# Altium integrated library Linear Technology Power Management Battery Management.IntLib: 626 symbols (part 3 of 56)
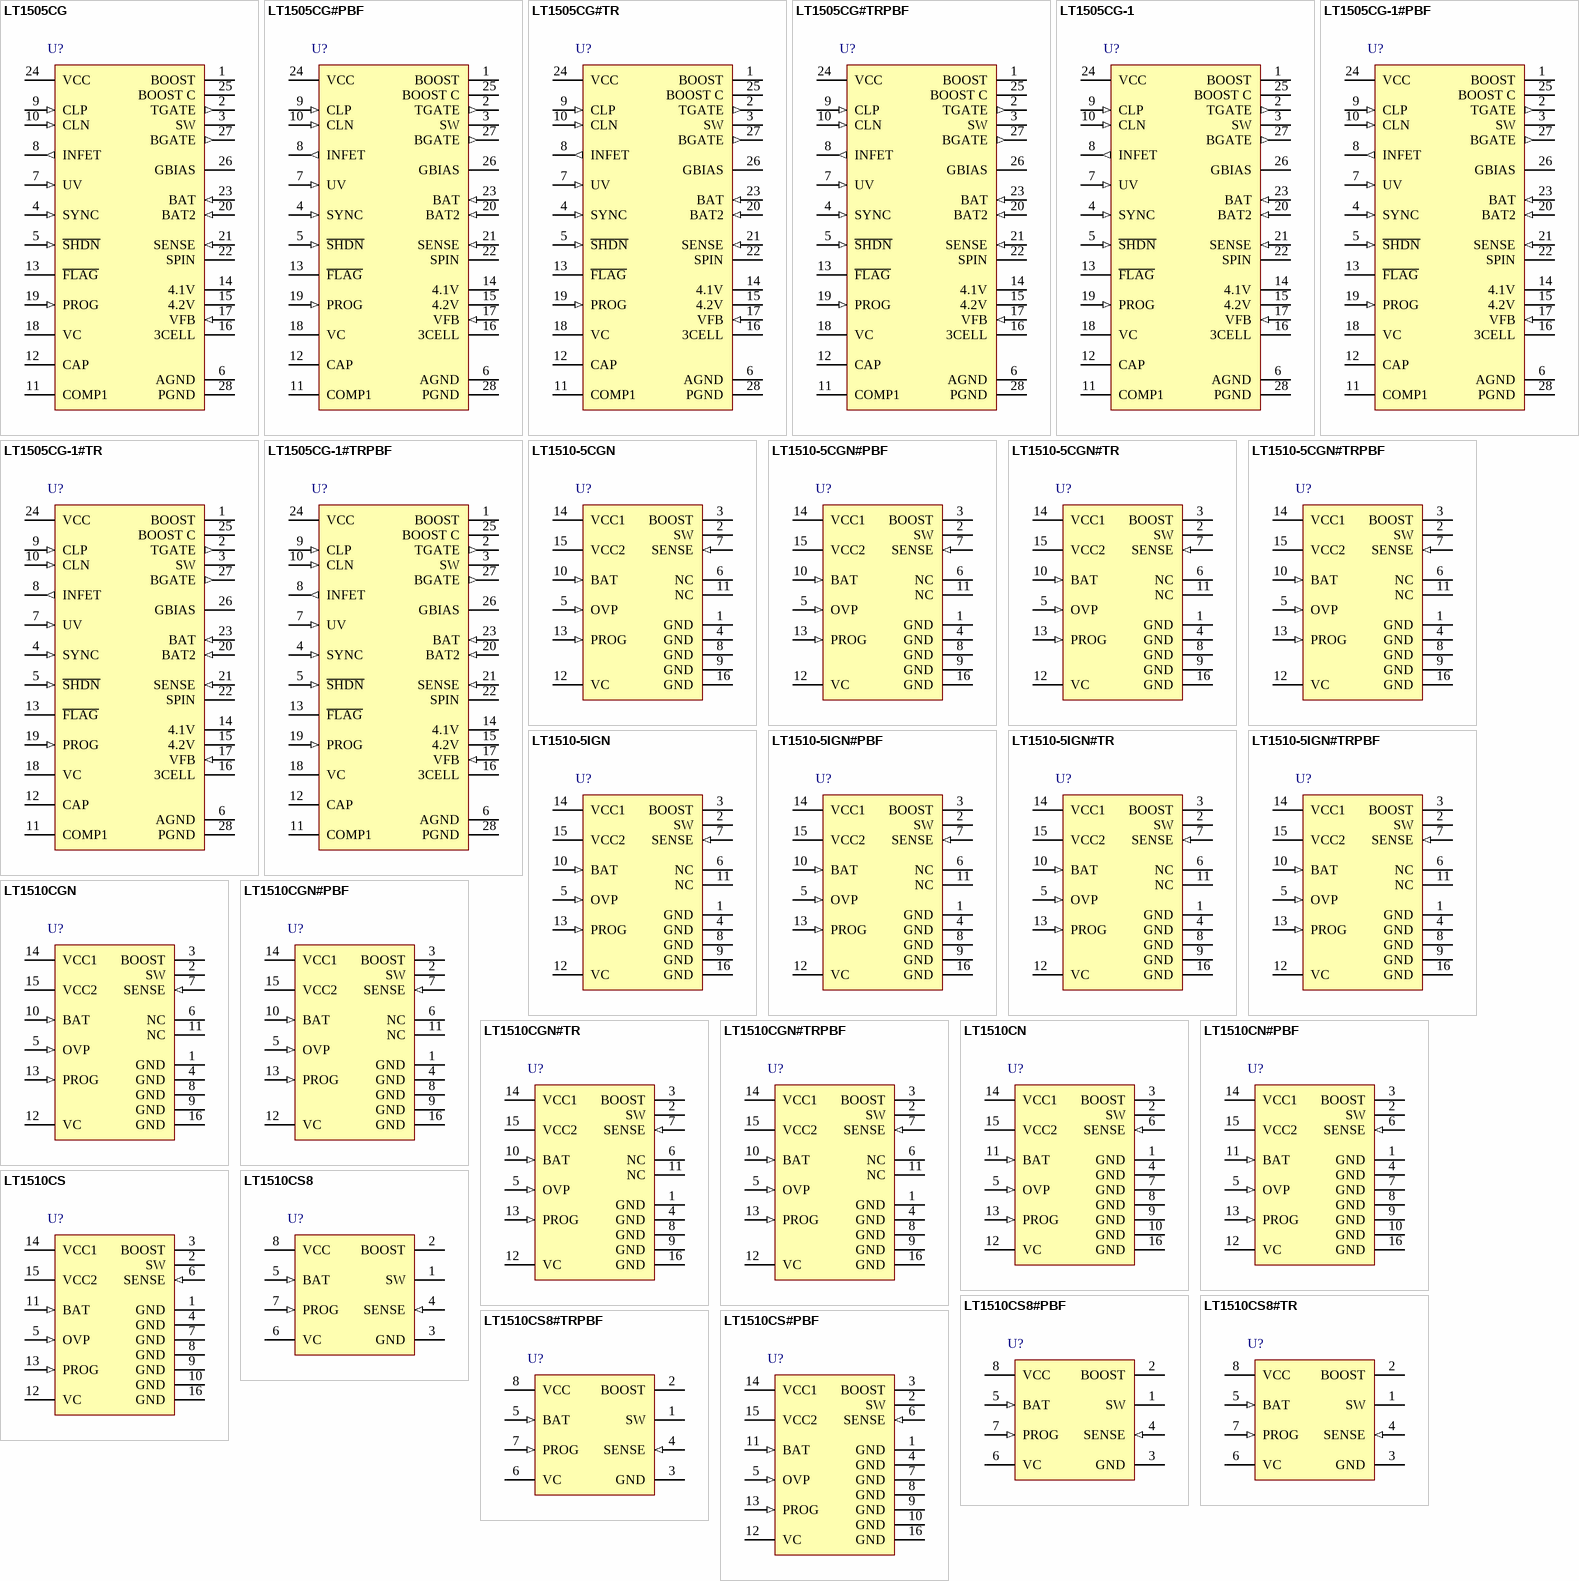
[diagram p24: symbols LT1505CG to LT1510CS#PBF]

## LT1510CGN#TR
designator U?
Constant-Voltage/ Constant-Current Battery Charger, 7 to 29 V Vin, 16-pin SOP (GN-16), 0 to 70 degC, Tape and Reel; Manufacturer: Linear Technology; PartNumber: LT1510CGN#TR; Battery Chemistry: Li-Ion, Li-Polymer, NiCd, NiMH, Lead Acid; Charge Termination: Use LTC1729; Float Voltage: Adj; Max Charge Current(A): 1.07; Number of Cells: 1 to 4 (Li), 1 to 12 (Ni); Type of Charger: Switching; Vin Max(V): 29; Vin Min(V): 7; DatasheetVersion: Rev. C; PackageVersion: Rev. B, 03/2012; PackageReference: GN-16; PackageDescription: 16-Pin Plastic SSOP, Body 4.9 x 3.9 mm, Pitch 0.635 mm; Supplier 1: Digi-Key; Supplier Part Number 1: LT1510CGN#TR-ND; Packing: Tape and Reel; RoHS: FALSE; Mounting Technology: Surface Mount; ComponentLink1Description: Manufacturer URL; ComponentLink1URL: http://www.linear.com/; ComponentLink2Description: Datasheet; ComponentLink2URL: http://cds.linear.com/docs/en/datasheet/1510fc.pdf; ComponentLink3Description: Package Specification; ComponentLink3URL: http://cds.linear.com/docs/en/packaging/05081641_B_GN16.pdf
footprint LT-GN-16_N (SOP, 16-Leads, Body 5x4mm, Pitch 0.635mm, IPC Medium Density)
footprint LT-GN-16_L (SOP, 16-Leads, Body 5x4mm, Pitch 0.635mm, IPC High Density)
footprint LT-GN-16_M (SOP, 16-Leads, Body 5x4mm, Pitch 0.635mm, IPC Low Density)
pins: 1 GND (power) "Ground Pin.", 2 SW (power) "Switch Output. The Schottky catch diode must be placed with very short lead length in close proximity to SW pin and GND.", 3 BOOST "This pin is used to bootstrap and drive the switch power NPN transistor to a low on-voltage for low power dissipation. In normal operation, VBOOST = VCC + VBAT when switch is on. Maximum allowable VBOOST is 55V.", 4 GND (power) "Ground Pin.", 5 OVP (in) "This is the input to the amplifier VA with a threshold of 2.465V. Typical input current is about 50nA into pin. For charging lithium-ion batteries, VA monitors the battery voltage and reduces charging current when battery (See Datasheet)", 6 NC, 7 SENSE (in) "Current Amplifier CA1 Input. Sensing can be at either terminal of the battery. Note that current sense resistor RS1 (0.08ohm) is between Sense and BAT pins.", 8 GND (power) "Ground Pin.", 9 GND (power) "Ground Pin.", 10 BAT (in) "Current Amplifier CA1 Input.", 11 NC, 12 VC "This is the control signal of the inner loop of the current mode PWM. Switching starts at 0.7V and higher VC corresponds to higher charging current in normal operation. A capacitor of at least 0.1uF to GND filters out noise (See Datasheet)", 13 PROG (in) "This pin is for programming the charging current and for system loop compensation. During normal operation, VPROG stays close to 2.465V. If it is shorted to GND the switching will stop. When a microprocessor-controlled DAC (See Datasheet)", 14 VCC1 (power) "Supply for the Chip. For good bypass, a low ESR capacitor of 10uF or higher is required, with the lead length kept to a minimum. VCC should be between 8V and 28V and at least 2V higher than VBAT for VBAT less than 10V, and 2.(See Datasheet)", 15 VCC2 (power) "Supply for the Chip. For good bypass, a low ESR capacitor of 10uF or higher is required, with the lead length kept to a minimum. VCC should be between 8V and 28V and at least 2V higher than VBAT for VBAT less than 10V, and 2.(See Datasheet)", 16 GND (power) "Ground Pin."

## LT1510CGN#TRPBF
designator U?
Constant-Voltage/ Constant-Current Battery Charger, 7 to 29 V Vin, 16-pin SOP (GN-16), 0 to 70 degC, Pb-Free, Tape and Reel; Manufacturer: Linear Technology; PartNumber: LT1510CGN#TRPBF; Battery Chemistry: Li-Ion, Li-Polymer, NiCd, NiMH, Lead Acid; Charge Termination: Use LTC1729; Float Voltage: Adj; Max Charge Current(A): 1.07; Number of Cells: 1 to 4 (Li), 1 to 12 (Ni); Type of Charger: Switching; Vin Max(V): 29; Vin Min(V): 7; DatasheetVersion: Rev. C; PackageVersion: Rev. B, 03/2012; PackageReference: GN-16; PackageDescription: 16-Pin Plastic SSOP, Body 4.9 x 3.9 mm, Pitch 0.635 mm; Supplier 1: Digi-Key; Supplier Part Number 1: LT1510CGN#TRPBF-ND; Packing: Tape and Reel; RoHS: TRUE; Mounting Technology: Surface Mount; ComponentLink1Description: Manufacturer URL; ComponentLink1URL: http://www.linear.com/; ComponentLink2Description: Datasheet; ComponentLink2URL: http://cds.linear.com/docs/en/datasheet/1510fc.pdf; ComponentLink3Description: Package Specification; ComponentLink3URL: http://cds.linear.com/docs/en/packaging/05081641_B_GN16.pdf
footprint LT-GN-16_N (SOP, 16-Leads, Body 5x4mm, Pitch 0.635mm, IPC Medium Density)
footprint LT-GN-16_L (SOP, 16-Leads, Body 5x4mm, Pitch 0.635mm, IPC High Density)
footprint LT-GN-16_M (SOP, 16-Leads, Body 5x4mm, Pitch 0.635mm, IPC Low Density)
pins: 1 GND (power) "Ground Pin.", 2 SW (power) "Switch Output. The Schottky catch diode must be placed with very short lead length in close proximity to SW pin and GND.", 3 BOOST "This pin is used to bootstrap and drive the switch power NPN transistor to a low on-voltage for low power dissipation. In normal operation, VBOOST = VCC + VBAT when switch is on. Maximum allowable VBOOST is 55V.", 4 GND (power) "Ground Pin.", 5 OVP (in) "This is the input to the amplifier VA with a threshold of 2.465V. Typical input current is about 50nA into pin. For charging lithium-ion batteries, VA monitors the battery voltage and reduces charging current when battery (See Datasheet)", 6 NC, 7 SENSE (in) "Current Amplifier CA1 Input. Sensing can be at either terminal of the battery. Note that current sense resistor RS1 (0.08ohm) is between Sense and BAT pins.", 8 GND (power) "Ground Pin.", 9 GND (power) "Ground Pin.", 10 BAT (in) "Current Amplifier CA1 Input.", 11 NC, 12 VC "This is the control signal of the inner loop of the current mode PWM. Switching starts at 0.7V and higher VC corresponds to higher charging current in normal operation. A capacitor of at least 0.1uF to GND filters out noise (See Datasheet)", 13 PROG (in) "This pin is for programming the charging current and for system loop compensation. During normal operation, VPROG stays close to 2.465V. If it is shorted to GND the switching will stop. When a microprocessor-controlled DAC (See Datasheet)", 14 VCC1 (power) "Supply for the Chip. For good bypass, a low ESR capacitor of 10uF or higher is required, with the lead length kept to a minimum. VCC should be between 8V and 28V and at least 2V higher than VBAT for VBAT less than 10V, and 2.(See Datasheet)", 15 VCC2 (power) "Supply for the Chip. For good bypass, a low ESR capacitor of 10uF or higher is required, with the lead length kept to a minimum. VCC should be between 8V and 28V and at least 2V higher than VBAT for VBAT less than 10V, and 2.(See Datasheet)", 16 GND (power) "Ground Pin."

## LT1510CN
designator U?
Constant-Voltage/ Constant-Current Battery Charger, 7 to 29 V Vin, 16-pin DIP (N-16), 0 to 70 degC; Manufacturer: Linear Technology; PartNumber: LT1510CN; Battery Chemistry: Li-Ion, Li-Polymer, NiCd, NiMH, Lead Acid; Charge Termination: Use LTC1729; Float Voltage: Adj; Max Charge Current(A): 1.07; Number of Cells: 1 to 4 (Li), 1 to 12 (Ni); Type of Charger: Switching; Vin Max(V): 29; Vin Min(V): 7; DatasheetVersion: Rev. C; PackageVersion: Rev. I, 07/2011; PackageReference: N-16; PackageDescription: 16-Pin PDIP, Body 19.56 x 6.48 mm, Pitch 2.54 mm; Supplier 1: Digi-Key; Supplier Part Number 1: LT1510CN-ND; RoHS: FALSE; Mounting Technology: Through Hole; ComponentLink1Description: Manufacturer URL; ComponentLink1URL: http://www.linear.com/; ComponentLink2Description: Datasheet; ComponentLink2URL: http://cds.linear.com/docs/en/datasheet/1510fc.pdf; ComponentLink3Description: Package Specification; ComponentLink3URL: http://cds.linear.com/docs/en/packaging/05081510_I_N16.pdf
footprint LT-N-16 (DIP, 16-Leads, Body 19.56x6.48mm, Pitch 2.54mm)
pins: 1 GND (power) "Ground Pin.", 2 SW (power) "Switch Output. The Schottky catch diode must be placed with very short lead length in close proximity to SW pin and GND.", 3 BOOST "This pin is used to bootstrap and drive the switch power NPN transistor to a low on-voltage for low power dissipation. In normal operation, VBOOST = VCC + VBAT when switch is on. Maximum allowable VBOOST is 55V.", 4 GND (power) "Ground Pin.", 5 OVP (in) "This is the input to the amplifier VA with a threshold of 2.465V. Typical input current is about 50nA into pin. For charging lithium-ion batteries, VA monitors the battery voltage and reduces charging current when battery (See Datasheet)", 6 SENSE (in) "Current Amplifier CA1 Input. Sensing can be at either terminal of the battery. Note that current sense resistor RS1 (0.08ohm) is between Sense and BAT pins.", 7 GND (power) "Ground Pin.", 8 GND (power) "Ground Pin.", 9 GND (power) "Ground Pin.", 10 GND (power) "Ground Pin.", 11 BAT (in) "Current Amplifier CA1 Input.", 12 VC "This is the control signal of the inner loop of the current mode PWM. Switching starts at 0.7V and higher VC corresponds to higher charging current in normal operation. A capacitor of at least 0.1uF to GND filters out noise (See Datasheet)", 13 PROG (in) "This pin is for programming the charging current and for system loop compensation. During normal operation, VPROG stays close to 2.465V. If it is shorted to GND the switching will stop. When a microprocessor-controlled DAC (See Datasheet)", 14 VCC1 (power) "Supply for the Chip. For good bypass, a low ESR capacitor of 10uF or higher is required, with the lead length kept to a minimum. VCC should be between 8V and 28V and at least 2V higher than VBAT for VBAT less than 10V, and 2.(See Datasheet)", 15 VCC2 (power) "Supply for the Chip. For good bypass, a low ESR capacitor of 10uF or higher is required, with the lead length kept to a minimum. VCC should be between 8V and 28V and at least 2V higher than VBAT for VBAT less than 10V, and 2.(See Datasheet)", 16 GND (power) "Ground Pin."

## LT1510CN#PBF
designator U?
Constant-Voltage/ Constant-Current Battery Charger, 7 to 29 V Vin, 16-pin DIP (N-16), 0 to 70 degC, Pb-Free; Manufacturer: Linear Technology; PartNumber: LT1510CN#PBF; Battery Chemistry: Li-Ion, Li-Polymer, NiCd, NiMH, Lead Acid; Charge Termination: Use LTC1729; Float Voltage: Adj; Max Charge Current(A): 1.07; Number of Cells: 1 to 4 (Li), 1 to 12 (Ni); Type of Charger: Switching; Vin Max(V): 29; Vin Min(V): 7; DatasheetVersion: Rev. C; PackageVersion: Rev. I, 07/2011; PackageReference: N-16; PackageDescription: 16-Pin PDIP, Body 19.56 x 6.48 mm, Pitch 2.54 mm; Supplier 1: Digi-Key; Supplier Part Number 1: LT1510CN#PBF-ND; RoHS: TRUE; Mounting Technology: Through Hole; ComponentLink1Description: Manufacturer URL; ComponentLink1URL: http://www.linear.com/; ComponentLink2Description: Datasheet; ComponentLink2URL: http://cds.linear.com/docs/en/datasheet/1510fc.pdf; ComponentLink3Description: Package Specification; ComponentLink3URL: http://cds.linear.com/docs/en/packaging/05081510_I_N16.pdf
footprint LT-N-16 (DIP, 16-Leads, Body 19.56x6.48mm, Pitch 2.54mm)
pins: 1 GND (power) "Ground Pin.", 2 SW (power) "Switch Output. The Schottky catch diode must be placed with very short lead length in close proximity to SW pin and GND.", 3 BOOST "This pin is used to bootstrap and drive the switch power NPN transistor to a low on-voltage for low power dissipation. In normal operation, VBOOST = VCC + VBAT when switch is on. Maximum allowable VBOOST is 55V.", 4 GND (power) "Ground Pin.", 5 OVP (in) "This is the input to the amplifier VA with a threshold of 2.465V. Typical input current is about 50nA into pin. For charging lithium-ion batteries, VA monitors the battery voltage and reduces charging current when battery (See Datasheet)", 6 SENSE (in) "Current Amplifier CA1 Input. Sensing can be at either terminal of the battery. Note that current sense resistor RS1 (0.08ohm) is between Sense and BAT pins.", 7 GND (power) "Ground Pin.", 8 GND (power) "Ground Pin.", 9 GND (power) "Ground Pin.", 10 GND (power) "Ground Pin.", 11 BAT (in) "Current Amplifier CA1 Input.", 12 VC "This is the control signal of the inner loop of the current mode PWM. Switching starts at 0.7V and higher VC corresponds to higher charging current in normal operation. A capacitor of at least 0.1uF to GND filters out noise (See Datasheet)", 13 PROG (in) "This pin is for programming the charging current and for system loop compensation. During normal operation, VPROG stays close to 2.465V. If it is shorted to GND the switching will stop. When a microprocessor-controlled DAC (See Datasheet)", 14 VCC1 (power) "Supply for the Chip. For good bypass, a low ESR capacitor of 10uF or higher is required, with the lead length kept to a minimum. VCC should be between 8V and 28V and at least 2V higher than VBAT for VBAT less than 10V, and 2.(See Datasheet)", 15 VCC2 (power) "Supply for the Chip. For good bypass, a low ESR capacitor of 10uF or higher is required, with the lead length kept to a minimum. VCC should be between 8V and 28V and at least 2V higher than VBAT for VBAT less than 10V, and 2.(See Datasheet)", 16 GND (power) "Ground Pin."

## LT1510CS
designator U?
Constant-Voltage/ Constant-Current Battery Charger, 7 to 29 V Vin, 16-pin SOP (S-16), 0 to 70 degC; Manufacturer: Linear Technology; PartNumber: LT1510CS; Battery Chemistry: Li-Ion, Li-Polymer, NiCd, NiMH, Lead Acid; Charge Termination: Use LTC1729; Float Voltage: Adj; Max Charge Current(A): 1.07; Number of Cells: 1 to 4 (Li), 1 to 12 (Ni); Type of Charger: Switching; Vin Max(V): 29; Vin Min(V): 7; DatasheetVersion: Rev. C; PackageVersion: Rev. G, 05/2012; PackageReference: S-16; PackageDescription: 16-Pin Plastic Small Outline, Body 9.9 x 3.9 mm, Pitch 1.27 mm; Supplier 1: Digi-Key; Supplier Part Number 1: LT1510CS-ND; RoHS: FALSE; Mounting Technology: Surface Mount; ComponentLink1Description: Manufacturer URL; ComponentLink1URL: http://www.linear.com/; ComponentLink2Description: Datasheet; ComponentLink2URL: http://cds.linear.com/docs/en/datasheet/1510fc.pdf; ComponentLink3Description: Package Specification; ComponentLink3URL: http://cds.linear.com/docs/en/packaging/S16%2005-08-1610%20Rev%20G.pdf
footprint LT-S-16_N (SOP, 16-Leads, Body 10x4mm, Pitch 1.27mm, IPC Medium Density)
footprint LT-S-16_L (SOP, 16-Leads, Body 10x4mm, Pitch 1.27mm, IPC High Density)
footprint LT-S-16_M (SOP, 16-Leads, Body 10x4mm, Pitch 1.27mm, IPC Low Density)
pins: 1 GND (power) "Ground Pin.", 2 SW (power) "Switch Output. The Schottky catch diode must be placed with very short lead length in close proximity to SW pin and GND.", 3 BOOST "This pin is used to bootstrap and drive the switch power NPN transistor to a low on-voltage for low power dissipation. In normal operation, VBOOST = VCC + VBAT when switch is on. Maximum allowable VBOOST is 55V.", 4 GND (power) "Ground Pin.", 5 OVP (in) "This is the input to the amplifier VA with a threshold of 2.465V. Typical input current is about 50nA into pin. For charging lithium-ion batteries, VA monitors the battery voltage and reduces charging current when battery (See Datasheet)", 6 SENSE (in) "Current Amplifier CA1 Input. Sensing can be at either terminal of the battery. Note that current sense resistor RS1 (0.08ohm) is between Sense and BAT pins.", 7 GND (power) "Ground Pin.", 8 GND (power) "Ground Pin.", 9 GND (power) "Ground Pin.", 10 GND (power) "Ground Pin.", 11 BAT (in) "Current Amplifier CA1 Input.", 12 VC "This is the control signal of the inner loop of the current mode PWM. Switching starts at 0.7V and higher VC corresponds to higher charging current in normal operation. A capacitor of at least 0.1uF to GND filters out noise (See Datasheet)", 13 PROG (in) "This pin is for programming the charging current and for system loop compensation. During normal operation, VPROG stays close to 2.465V. If it is shorted to GND the switching will stop. When a microprocessor-controlled DAC (See Datasheet)", 14 VCC1 (power) "Supply for the Chip. For good bypass, a low ESR capacitor of 10uF or higher is required, with the lead length kept to a minimum. VCC should be between 8V and 28V and at least 2V higher than VBAT for VBAT less than 10V, and 2.(See Datasheet)", 15 VCC2 (power) "Supply for the Chip. For good bypass, a low ESR capacitor of 10uF or higher is required, with the lead length kept to a minimum. VCC should be between 8V and 28V and at least 2V higher than VBAT for VBAT less than 10V, and 2.(See Datasheet)", 16 GND (power) "Ground Pin."

## LT1510CS8
designator U?
Constant-Voltage/ Constant-Current Battery Charger, 7 to 29 V Vin, 8-pin SOIC (S8-8), 0 to 70 degC; Manufacturer: Linear Technology; PartNumber: LT1510CS8; Battery Chemistry: Li-Ion, Li-Polymer, NiCd, NiMH, Lead Acid; Charge Termination: Use LTC1729; Float Voltage: Adj; Max Charge Current(A): 1.07; Number of Cells: 1 to 4 (Li), 1 to 12 (Ni); Type of Charger: Switching; Vin Max(V): 29; Vin Min(V): 7; DatasheetVersion: Rev. C; PackageVersion: Rev. G, 03/2012; PackageReference: S8-8; PackageDescription: 8-Pin Plastic Small Outline (Narrow .150 Inch), Body 4.9 x 3.9 mm, Pitch 1.27 mm; Supplier 1: Digi-Key; Supplier Part Number 1: LT1510CS8-ND; Supplier 2: Newark; Supplier Part Number 2: 57M4681; RoHS: FALSE; Mounting Technology: Surface Mount; ComponentLink1Description: Manufacturer URL; ComponentLink1URL: http://www.linear.com/; ComponentLink2Description: Datasheet; ComponentLink2URL: http://cds.linear.com/docs/en/datasheet/1510fc.pdf; ComponentLink3Description: Package Specification; ComponentLink3URL: http://cds.linear.com/docs/en/packaging/05081610_G_SO8.pdf
footprint LT-S8-8_N (SOIC, 8-Leads, Body 5x4mm, Pitch 1.27mm, IPC Medium Density)
footprint LT-S8-8_L (SOIC, 8-Leads, Body 5x4mm, Pitch 1.27mm, IPC High Density)
footprint LT-S8-8_M (SOIC, 8-Leads, Body 5x4mm, Pitch 1.27mm, IPC Low Density)
pins: 1 SW (power) "Switch Output. The Schottky catch diode must be placed with very short lead length in close proximity to SW pin and GND.", 2 BOOST "This pin is used to bootstrap and drive the switch power NPN transistor to a low on-voltage for low power dissipation. In normal operation, VBOOST = VCC + VBAT when switch is on. Maximum allowable VBOOST is 55V.", 3 GND (power) "Ground Pin.", 4 SENSE (in) "Current Amplifier CA1 Input. Sensing can be at either terminal of the battery. Note that current sense resistor RS1 (0.08ohm) is between Sense and BAT pins.", 5 BAT (in) "Current Amplifier CA1 Input.", 6 VC "This is the control signal of the inner loop of the current mode PWM. Switching starts at 0.7V and higher VC corresponds to higher charging current in normal operation. A capacitor of at least 0.1uF to GND filters out noise (See Datasheet)", 7 PROG (in) "This pin is for programming the charging current and for system loop compensation. During normal operation, VPROG stays close to 2.465V. If it is shorted to GND the switching will stop. When a microprocessor-controlled DAC (See Datasheet)", 8 VCC (power) "Supply for the Chip. For good bypass, a low ESR capacitor of 10uF or higher is required, with the lead length kept to a minimum. VCC should be between 8V and 28V and at least 2V higher than VBAT for VBAT less than 10V, and 2.(See Datasheet)"

## LT1510CS8#PBF
designator U?
Constant-Voltage/ Constant-Current Battery Charger, 7 to 29 V Vin, 8-pin SOIC (S8-8), 0 to 70 degC, Pb-Free; Manufacturer: Linear Technology; PartNumber: LT1510CS8#PBF; Battery Chemistry: Li-Ion, Li-Polymer, NiCd, NiMH, Lead Acid; Charge Termination: Use LTC1729; Float Voltage: Adj; Max Charge Current(A): 1.07; Number of Cells: 1 to 4 (Li), 1 to 12 (Ni); Type of Charger: Switching; Vin Max(V): 29; Vin Min(V): 7; DatasheetVersion: Rev. C; PackageVersion: Rev. G, 03/2012; PackageReference: S8-8; PackageDescription: 8-Pin Plastic Small Outline (Narrow .150 Inch), Body 4.9 x 3.9 mm, Pitch 1.27 mm; Supplier 1: Digi-Key; Supplier Part Number 1: LT1510CS8#PBF-ND; Supplier 2: Farnell; Supplier Part Number 2: 1273761; Supplier 3: Newark; Supplier Part Number 3: 57M4682; RoHS: TRUE; Mounting Technology: Surface Mount; ComponentLink1Description: Manufacturer URL; ComponentLink1URL: http://www.linear.com/; ComponentLink2Description: Datasheet; ComponentLink2URL: http://cds.linear.com/docs/en/datasheet/1510fc.pdf; ComponentLink3Description: Package Specification; ComponentLink3URL: http://cds.linear.com/docs/en/packaging/05081610_G_SO8.pdf
footprint LT-S8-8_N (SOIC, 8-Leads, Body 5x4mm, Pitch 1.27mm, IPC Medium Density)
footprint LT-S8-8_L (SOIC, 8-Leads, Body 5x4mm, Pitch 1.27mm, IPC High Density)
footprint LT-S8-8_M (SOIC, 8-Leads, Body 5x4mm, Pitch 1.27mm, IPC Low Density)
pins: 1 SW (power) "Switch Output. The Schottky catch diode must be placed with very short lead length in close proximity to SW pin and GND.", 2 BOOST "This pin is used to bootstrap and drive the switch power NPN transistor to a low on-voltage for low power dissipation. In normal operation, VBOOST = VCC + VBAT when switch is on. Maximum allowable VBOOST is 55V.", 3 GND (power) "Ground Pin.", 4 SENSE (in) "Current Amplifier CA1 Input. Sensing can be at either terminal of the battery. Note that current sense resistor RS1 (0.08ohm) is between Sense and BAT pins.", 5 BAT (in) "Current Amplifier CA1 Input.", 6 VC "This is the control signal of the inner loop of the current mode PWM. Switching starts at 0.7V and higher VC corresponds to higher charging current in normal operation. A capacitor of at least 0.1uF to GND filters out noise (See Datasheet)", 7 PROG (in) "This pin is for programming the charging current and for system loop compensation. During normal operation, VPROG stays close to 2.465V. If it is shorted to GND the switching will stop. When a microprocessor-controlled DAC (See Datasheet)", 8 VCC (power) "Supply for the Chip. For good bypass, a low ESR capacitor of 10uF or higher is required, with the lead length kept to a minimum. VCC should be between 8V and 28V and at least 2V higher than VBAT for VBAT less than 10V, and 2.(See Datasheet)"

## LT1510CS8#TR
designator U?
Constant-Voltage/ Constant-Current Battery Charger, 7 to 29 V Vin, 8-pin SOIC (S8-8), 0 to 70 degC, Tape and Reel; Manufacturer: Linear Technology; PartNumber: LT1510CS8#TR; Battery Chemistry: Li-Ion, Li-Polymer, NiCd, NiMH, Lead Acid; Charge Termination: Use LTC1729; Float Voltage: Adj; Max Charge Current(A): 1.07; Number of Cells: 1 to 4 (Li), 1 to 12 (Ni); Type of Charger: Switching; Vin Max(V): 29; Vin Min(V): 7; DatasheetVersion: Rev. C; PackageVersion: Rev. G, 03/2012; PackageReference: S8-8; PackageDescription: 8-Pin Plastic Small Outline (Narrow .150 Inch), Body 4.9 x 3.9 mm, Pitch 1.27 mm; Supplier 1: Digi-Key; Supplier Part Number 1: LT1510CS8#TR-ND; Packing: Tape and Reel; RoHS: FALSE; Mounting Technology: Surface Mount; ComponentLink1Description: Manufacturer URL; ComponentLink1URL: http://www.linear.com/; ComponentLink2Description: Datasheet; ComponentLink2URL: http://cds.linear.com/docs/en/datasheet/1510fc.pdf; ComponentLink3Description: Package Specification; ComponentLink3URL: http://cds.linear.com/docs/en/packaging/05081610_G_SO8.pdf
footprint LT-S8-8_N (SOIC, 8-Leads, Body 5x4mm, Pitch 1.27mm, IPC Medium Density)
footprint LT-S8-8_L (SOIC, 8-Leads, Body 5x4mm, Pitch 1.27mm, IPC High Density)
footprint LT-S8-8_M (SOIC, 8-Leads, Body 5x4mm, Pitch 1.27mm, IPC Low Density)
pins: 1 SW (power) "Switch Output. The Schottky catch diode must be placed with very short lead length in close proximity to SW pin and GND.", 2 BOOST "This pin is used to bootstrap and drive the switch power NPN transistor to a low on-voltage for low power dissipation. In normal operation, VBOOST = VCC + VBAT when switch is on. Maximum allowable VBOOST is 55V.", 3 GND (power) "Ground Pin.", 4 SENSE (in) "Current Amplifier CA1 Input. Sensing can be at either terminal of the battery. Note that current sense resistor RS1 (0.08ohm) is between Sense and BAT pins.", 5 BAT (in) "Current Amplifier CA1 Input.", 6 VC "This is the control signal of the inner loop of the current mode PWM. Switching starts at 0.7V and higher VC corresponds to higher charging current in normal operation. A capacitor of at least 0.1uF to GND filters out noise (See Datasheet)", 7 PROG (in) "This pin is for programming the charging current and for system loop compensation. During normal operation, VPROG stays close to 2.465V. If it is shorted to GND the switching will stop. When a microprocessor-controlled DAC (See Datasheet)", 8 VCC (power) "Supply for the Chip. For good bypass, a low ESR capacitor of 10uF or higher is required, with the lead length kept to a minimum. VCC should be between 8V and 28V and at least 2V higher than VBAT for VBAT less than 10V, and 2.(See Datasheet)"

## LT1510CS8#TRPBF
designator U?
Constant-Voltage/ Constant-Current Battery Charger, 7 to 29 V Vin, 8-pin SOIC (S8-8), 0 to 70 degC, Pb-Free, Tape and Reel; Manufacturer: Linear Technology; PartNumber: LT1510CS8#TRPBF; Battery Chemistry: Li-Ion, Li-Polymer, NiCd, NiMH, Lead Acid; Charge Termination: Use LTC1729; Float Voltage: Adj; Max Charge Current(A): 1.07; Number of Cells: 1 to 4 (Li), 1 to 12 (Ni); Type of Charger: Switching; Vin Max(V): 29; Vin Min(V): 7; DatasheetVersion: Rev. C; PackageVersion: Rev. G, 03/2012; PackageReference: S8-8; PackageDescription: 8-Pin Plastic Small Outline (Narrow .150 Inch), Body 4.9 x 3.9 mm, Pitch 1.27 mm; Supplier 1: Digi-Key; Supplier Part Number 1: LT1510CS8#TRPBF-ND; Packing: Tape and Reel; RoHS: TRUE; Mounting Technology: Surface Mount; ComponentLink1Description: Manufacturer URL; ComponentLink1URL: http://www.linear.com/; ComponentLink2Description: Datasheet; ComponentLink2URL: http://cds.linear.com/docs/en/datasheet/1510fc.pdf; ComponentLink3Description: Package Specification; ComponentLink3URL: http://cds.linear.com/docs/en/packaging/05081610_G_SO8.pdf
footprint LT-S8-8_N (SOIC, 8-Leads, Body 5x4mm, Pitch 1.27mm, IPC Medium Density)
footprint LT-S8-8_L (SOIC, 8-Leads, Body 5x4mm, Pitch 1.27mm, IPC High Density)
footprint LT-S8-8_M (SOIC, 8-Leads, Body 5x4mm, Pitch 1.27mm, IPC Low Density)
pins: 1 SW (power) "Switch Output. The Schottky catch diode must be placed with very short lead length in close proximity to SW pin and GND.", 2 BOOST "This pin is used to bootstrap and drive the switch power NPN transistor to a low on-voltage for low power dissipation. In normal operation, VBOOST = VCC + VBAT when switch is on. Maximum allowable VBOOST is 55V.", 3 GND (power) "Ground Pin.", 4 SENSE (in) "Current Amplifier CA1 Input. Sensing can be at either terminal of the battery. Note that current sense resistor RS1 (0.08ohm) is between Sense and BAT pins.", 5 BAT (in) "Current Amplifier CA1 Input.", 6 VC "This is the control signal of the inner loop of the current mode PWM. Switching starts at 0.7V and higher VC corresponds to higher charging current in normal operation. A capacitor of at least 0.1uF to GND filters out noise (See Datasheet)", 7 PROG (in) "This pin is for programming the charging current and for system loop compensation. During normal operation, VPROG stays close to 2.465V. If it is shorted to GND the switching will stop. When a microprocessor-controlled DAC (See Datasheet)", 8 VCC (power) "Supply for the Chip. For good bypass, a low ESR capacitor of 10uF or higher is required, with the lead length kept to a minimum. VCC should be between 8V and 28V and at least 2V higher than VBAT for VBAT less than 10V, and 2.(See Datasheet)"

## LT1510CS#PBF
designator U?
Constant-Voltage/ Constant-Current Battery Charger, 7 to 29 V Vin, 16-pin SOP (S-16), 0 to 70 degC, Pb-Free; Manufacturer: Linear Technology; PartNumber: LT1510CS#PBF; Battery Chemistry: Li-Ion, Li-Polymer, NiCd, NiMH, Lead Acid; Charge Termination: Use LTC1729; Float Voltage: Adj; Max Charge Current(A): 1.07; Number of Cells: 1 to 4 (Li), 1 to 12 (Ni); Type of Charger: Switching; Vin Max(V): 29; Vin Min(V): 7; DatasheetVersion: Rev. C; PackageVersion: Rev. G, 05/2012; PackageReference: S-16; PackageDescription: 16-Pin Plastic Small Outline, Body 9.9 x 3.9 mm, Pitch 1.27 mm; Supplier 1: Digi-Key; Supplier Part Number 1: LT1510CS#PBF-ND; Supplier 2: Farnell; Supplier Part Number 2: 1663443; Supplier 3: Newark; Supplier Part Number 3: 57M4678; RoHS: TRUE; Mounting Technology: Surface Mount; ComponentLink1Description: Manufacturer URL; ComponentLink1URL: http://www.linear.com/; ComponentLink2Description: Datasheet; ComponentLink2URL: http://cds.linear.com/docs/en/datasheet/1510fc.pdf; ComponentLink3Description: Package Specification; ComponentLink3URL: http://cds.linear.com/docs/en/packaging/S16%2005-08-1610%20Rev%20G.pdf
footprint LT-S-16_N (SOP, 16-Leads, Body 10x4mm, Pitch 1.27mm, IPC Medium Density)
footprint LT-S-16_L (SOP, 16-Leads, Body 10x4mm, Pitch 1.27mm, IPC High Density)
footprint LT-S-16_M (SOP, 16-Leads, Body 10x4mm, Pitch 1.27mm, IPC Low Density)
pins: 1 GND (power) "Ground Pin.", 2 SW (power) "Switch Output. The Schottky catch diode must be placed with very short lead length in close proximity to SW pin and GND.", 3 BOOST "This pin is used to bootstrap and drive the switch power NPN transistor to a low on-voltage for low power dissipation. In normal operation, VBOOST = VCC + VBAT when switch is on. Maximum allowable VBOOST is 55V.", 4 GND (power) "Ground Pin.", 5 OVP (in) "This is the input to the amplifier VA with a threshold of 2.465V. Typical input current is about 50nA into pin. For charging lithium-ion batteries, VA monitors the battery voltage and reduces charging current when battery (See Datasheet)", 6 SENSE (in) "Current Amplifier CA1 Input. Sensing can be at either terminal of the battery. Note that current sense resistor RS1 (0.08ohm) is between Sense and BAT pins.", 7 GND (power) "Ground Pin.", 8 GND (power) "Ground Pin.", 9 GND (power) "Ground Pin.", 10 GND (power) "Ground Pin.", 11 BAT (in) "Current Amplifier CA1 Input.", 12 VC "This is the control signal of the inner loop of the current mode PWM. Switching starts at 0.7V and higher VC corresponds to higher charging current in normal operation. A capacitor of at least 0.1uF to GND filters out noise (See Datasheet)", 13 PROG (in) "This pin is for programming the charging current and for system loop compensation. During normal operation, VPROG stays close to 2.465V. If it is shorted to GND the switching will stop. When a microprocessor-controlled DAC (See Datasheet)", 14 VCC1 (power) "Supply for the Chip. For good bypass, a low ESR capacitor of 10uF or higher is required, with the lead length kept to a minimum. VCC should be between 8V and 28V and at least 2V higher than VBAT for VBAT less than 10V, and 2.(See Datasheet)", 15 VCC2 (power) "Supply for the Chip. For good bypass, a low ESR capacitor of 10uF or higher is required, with the lead length kept to a minimum. VCC should be between 8V and 28V and at least 2V higher than VBAT for VBAT less than 10V, and 2.(See Datasheet)", 16 GND (power) "Ground Pin."

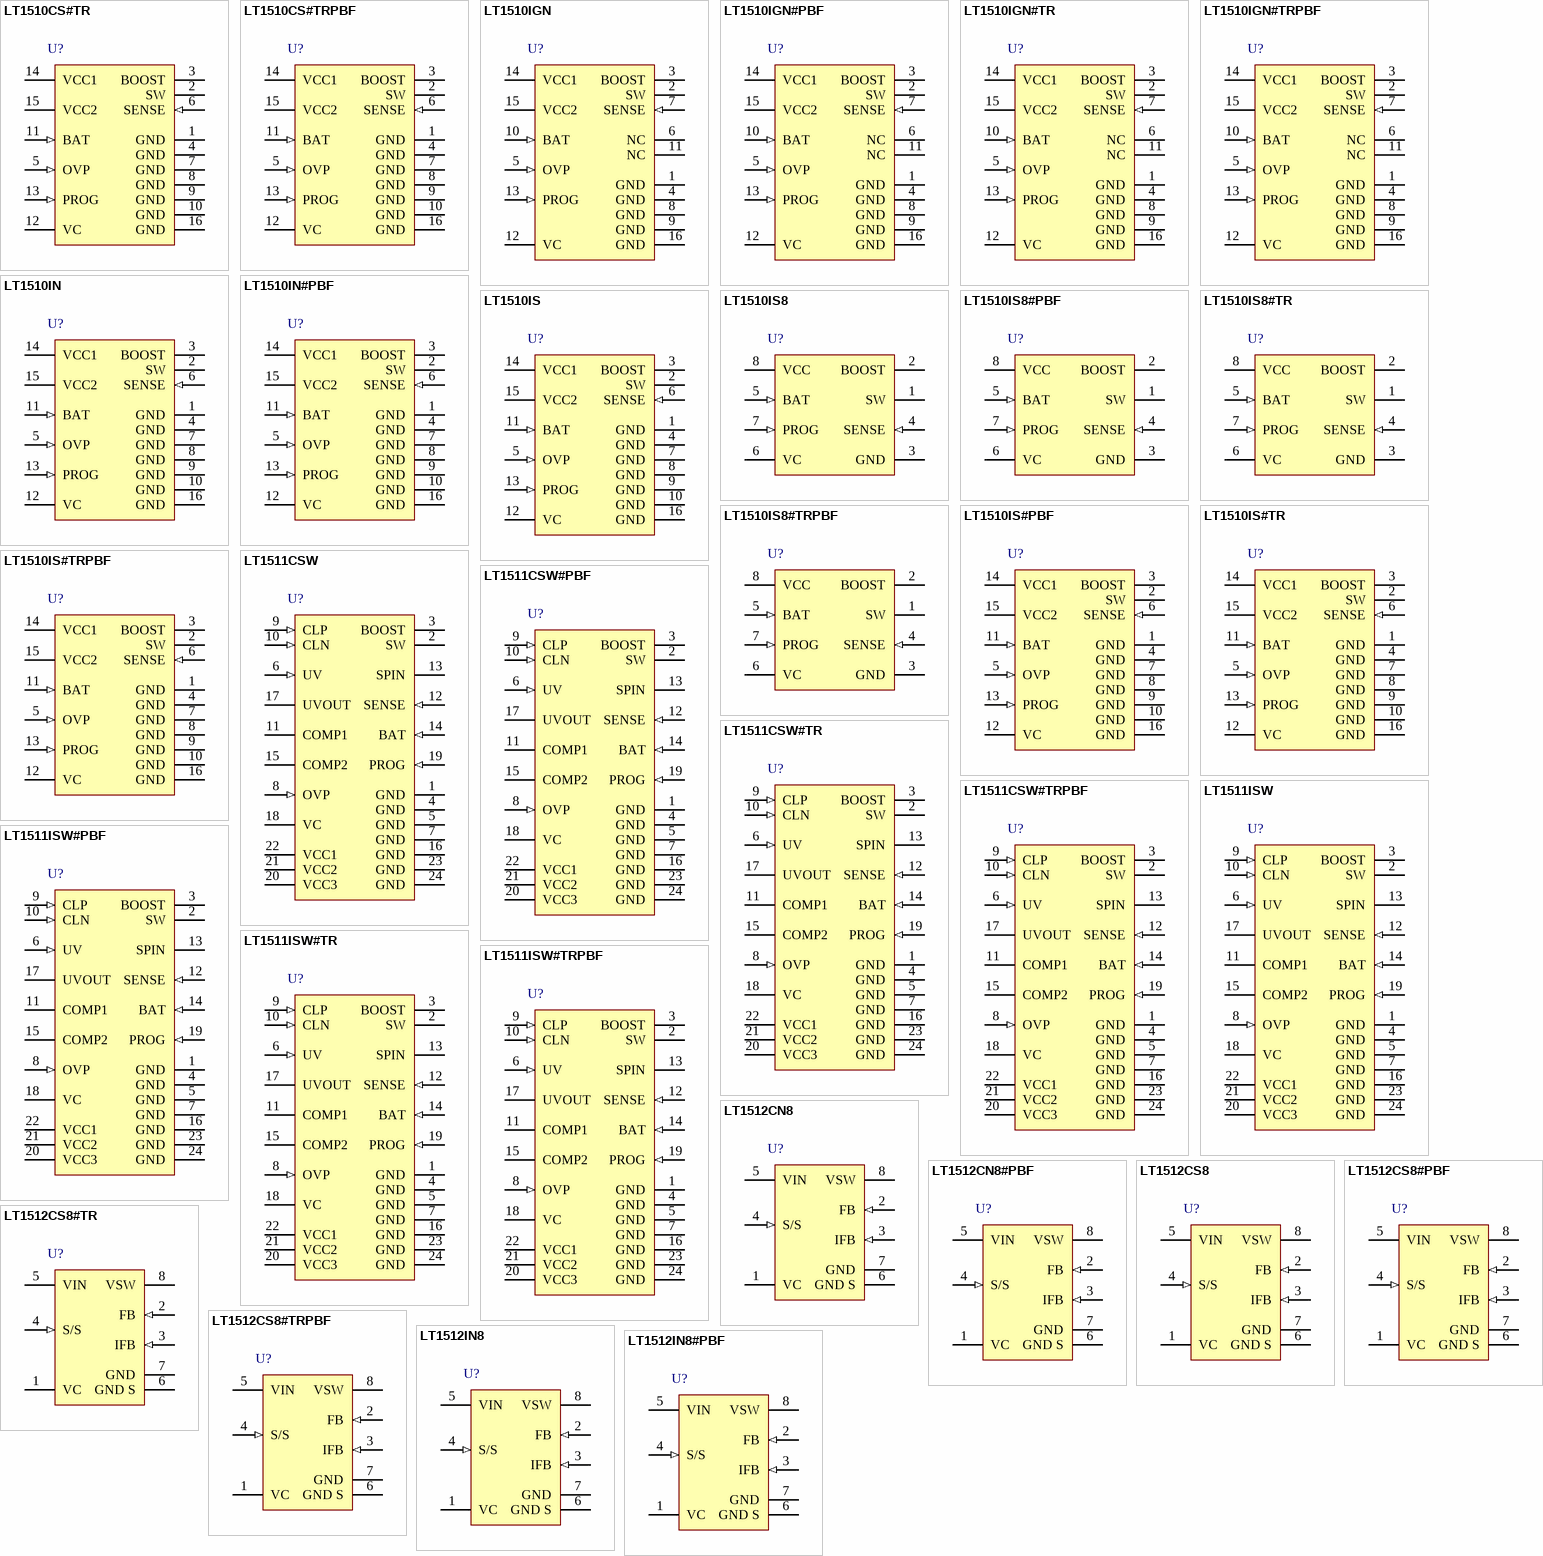
[diagram p1: symbols LT1510CS#TR to LT1512IN8#PBF]

## LT1510CS#TR
designator U?
Constant-Voltage/ Constant-Current Battery Charger, 7 to 29 V Vin, 16-pin SOP (S-16), 0 to 70 degC, Tape and Reel; Manufacturer: Linear Technology; PartNumber: LT1510CS#TR; Battery Chemistry: Li-Ion, Li-Polymer, NiCd, NiMH, Lead Acid; Charge Termination: Use LTC1729; Float Voltage: Adj; Max Charge Current(A): 1.07; Number of Cells: 1 to 4 (Li), 1 to 12 (Ni); Type of Charger: Switching; Vin Max(V): 29; Vin Min(V): 7; DatasheetVersion: Rev. C; PackageVersion: Rev. G, 05/2012; PackageReference: S-16; PackageDescription: 16-Pin Plastic Small Outline, Body 9.9 x 3.9 mm, Pitch 1.27 mm; Supplier 1: Digi-Key; Supplier Part Number 1: LT1510CS#TR-ND; Supplier 2: Newark; Supplier Part Number 2: 57M4679; Packing: Tape and Reel; RoHS: FALSE; Mounting Technology: Surface Mount; ComponentLink1Description: Manufacturer URL; ComponentLink1URL: http://www.linear.com/; ComponentLink2Description: Datasheet; ComponentLink2URL: http://cds.linear.com/docs/en/datasheet/1510fc.pdf; ComponentLink3Description: Package Specification; ComponentLink3URL: http://cds.linear.com/docs/en/packaging/S16%2005-08-1610%20Rev%20G.pdf
footprint LT-S-16_N (SOP, 16-Leads, Body 10x4mm, Pitch 1.27mm, IPC Medium Density)
footprint LT-S-16_L (SOP, 16-Leads, Body 10x4mm, Pitch 1.27mm, IPC High Density)
footprint LT-S-16_M (SOP, 16-Leads, Body 10x4mm, Pitch 1.27mm, IPC Low Density)
pins: 1 GND (power) "Ground Pin.", 2 SW (power) "Switch Output. The Schottky catch diode must be placed with very short lead length in close proximity to SW pin and GND.", 3 BOOST "This pin is used to bootstrap and drive the switch power NPN transistor to a low on-voltage for low power dissipation. In normal operation, VBOOST = VCC + VBAT when switch is on. Maximum allowable VBOOST is 55V.", 4 GND (power) "Ground Pin.", 5 OVP (in) "This is the input to the amplifier VA with a threshold of 2.465V. Typical input current is about 50nA into pin. For charging lithium-ion batteries, VA monitors the battery voltage and reduces charging current when battery (See Datasheet)", 6 SENSE (in) "Current Amplifier CA1 Input. Sensing can be at either terminal of the battery. Note that current sense resistor RS1 (0.08ohm) is between Sense and BAT pins.", 7 GND (power) "Ground Pin.", 8 GND (power) "Ground Pin.", 9 GND (power) "Ground Pin.", 10 GND (power) "Ground Pin.", 11 BAT (in) "Current Amplifier CA1 Input.", 12 VC "This is the control signal of the inner loop of the current mode PWM. Switching starts at 0.7V and higher VC corresponds to higher charging current in normal operation. A capacitor of at least 0.1uF to GND filters out noise (See Datasheet)", 13 PROG (in) "This pin is for programming the charging current and for system loop compensation. During normal operation, VPROG stays close to 2.465V. If it is shorted to GND the switching will stop. When a microprocessor-controlled DAC (See Datasheet)", 14 VCC1 (power) "Supply for the Chip. For good bypass, a low ESR capacitor of 10uF or higher is required, with the lead length kept to a minimum. VCC should be between 8V and 28V and at least 2V higher than VBAT for VBAT less than 10V, and 2.(See Datasheet)", 15 VCC2 (power) "Supply for the Chip. For good bypass, a low ESR capacitor of 10uF or higher is required, with the lead length kept to a minimum. VCC should be between 8V and 28V and at least 2V higher than VBAT for VBAT less than 10V, and 2.(See Datasheet)", 16 GND (power) "Ground Pin."

## LT1510CS#TRPBF
designator U?
Constant-Voltage/ Constant-Current Battery Charger, 7 to 29 V Vin, 16-pin SOP (S-16), 0 to 70 degC, Pb-Free, Tape and Reel; Manufacturer: Linear Technology; PartNumber: LT1510CS#TRPBF; Battery Chemistry: Li-Ion, Li-Polymer, NiCd, NiMH, Lead Acid; Charge Termination: Use LTC1729; Float Voltage: Adj; Max Charge Current(A): 1.07; Number of Cells: 1 to 4 (Li), 1 to 12 (Ni); Type of Charger: Switching; Vin Max(V): 29; Vin Min(V): 7; DatasheetVersion: Rev. C; PackageVersion: Rev. G, 05/2012; PackageReference: S-16; PackageDescription: 16-Pin Plastic Small Outline, Body 9.9 x 3.9 mm, Pitch 1.27 mm; Supplier 1: Digi-Key; Supplier Part Number 1: LT1510CS#TRPBF-ND; Supplier 2: Newark; Supplier Part Number 2: 57M4680; Packing: Tape and Reel; RoHS: TRUE; Mounting Technology: Surface Mount; ComponentLink1Description: Manufacturer URL; ComponentLink1URL: http://www.linear.com/; ComponentLink2Description: Datasheet; ComponentLink2URL: http://cds.linear.com/docs/en/datasheet/1510fc.pdf; ComponentLink3Description: Package Specification; ComponentLink3URL: http://cds.linear.com/docs/en/packaging/S16%2005-08-1610%20Rev%20G.pdf
footprint LT-S-16_N (SOP, 16-Leads, Body 10x4mm, Pitch 1.27mm, IPC Medium Density)
footprint LT-S-16_L (SOP, 16-Leads, Body 10x4mm, Pitch 1.27mm, IPC High Density)
footprint LT-S-16_M (SOP, 16-Leads, Body 10x4mm, Pitch 1.27mm, IPC Low Density)
pins: 1 GND (power) "Ground Pin.", 2 SW (power) "Switch Output. The Schottky catch diode must be placed with very short lead length in close proximity to SW pin and GND.", 3 BOOST "This pin is used to bootstrap and drive the switch power NPN transistor to a low on-voltage for low power dissipation. In normal operation, VBOOST = VCC + VBAT when switch is on. Maximum allowable VBOOST is 55V.", 4 GND (power) "Ground Pin.", 5 OVP (in) "This is the input to the amplifier VA with a threshold of 2.465V. Typical input current is about 50nA into pin. For charging lithium-ion batteries, VA monitors the battery voltage and reduces charging current when battery (See Datasheet)", 6 SENSE (in) "Current Amplifier CA1 Input. Sensing can be at either terminal of the battery. Note that current sense resistor RS1 (0.08ohm) is between Sense and BAT pins.", 7 GND (power) "Ground Pin.", 8 GND (power) "Ground Pin.", 9 GND (power) "Ground Pin.", 10 GND (power) "Ground Pin.", 11 BAT (in) "Current Amplifier CA1 Input.", 12 VC "This is the control signal of the inner loop of the current mode PWM. Switching starts at 0.7V and higher VC corresponds to higher charging current in normal operation. A capacitor of at least 0.1uF to GND filters out noise (See Datasheet)", 13 PROG (in) "This pin is for programming the charging current and for system loop compensation. During normal operation, VPROG stays close to 2.465V. If it is shorted to GND the switching will stop. When a microprocessor-controlled DAC (See Datasheet)", 14 VCC1 (power) "Supply for the Chip. For good bypass, a low ESR capacitor of 10uF or higher is required, with the lead length kept to a minimum. VCC should be between 8V and 28V and at least 2V higher than VBAT for VBAT less than 10V, and 2.(See Datasheet)", 15 VCC2 (power) "Supply for the Chip. For good bypass, a low ESR capacitor of 10uF or higher is required, with the lead length kept to a minimum. VCC should be between 8V and 28V and at least 2V higher than VBAT for VBAT less than 10V, and 2.(See Datasheet)", 16 GND (power) "Ground Pin."

## LT1510IGN
designator U?
Constant-Voltage/ Constant-Current Battery Charger, 7 to 29 V Vin, 16-pin SOP (GN-16), -40 to 85 degC; Manufacturer: Linear Technology; PartNumber: LT1510IGN; Battery Chemistry: Li-Ion, Li-Polymer, NiCd, NiMH, Lead Acid; Charge Termination: Use LTC1729; Float Voltage: Adj; Max Charge Current(A): 1.07; Number of Cells: 1 to 4 (Li), 1 to 12 (Ni); Type of Charger: Switching; Vin Max(V): 29; Vin Min(V): 7; DatasheetVersion: Rev. C; PackageVersion: Rev. B, 03/2012; PackageReference: GN-16; PackageDescription: 16-Pin Plastic SSOP, Body 4.9 x 3.9 mm, Pitch 0.635 mm; Supplier 1: Digi-Key; Supplier Part Number 1: LT1510IGN-ND; RoHS: FALSE; Mounting Technology: Surface Mount; ComponentLink1Description: Manufacturer URL; ComponentLink1URL: http://www.linear.com/; ComponentLink2Description: Datasheet; ComponentLink2URL: http://cds.linear.com/docs/en/datasheet/1510fc.pdf; ComponentLink3Description: Package Specification; ComponentLink3URL: http://cds.linear.com/docs/en/packaging/05081641_B_GN16.pdf
footprint LT-GN-16_N (SOP, 16-Leads, Body 5x4mm, Pitch 0.635mm, IPC Medium Density)
footprint LT-GN-16_L (SOP, 16-Leads, Body 5x4mm, Pitch 0.635mm, IPC High Density)
footprint LT-GN-16_M (SOP, 16-Leads, Body 5x4mm, Pitch 0.635mm, IPC Low Density)
pins: 1 GND (power) "Ground Pin.", 2 SW (power) "Switch Output. The Schottky catch diode must be placed with very short lead length in close proximity to SW pin and GND.", 3 BOOST "This pin is used to bootstrap and drive the switch power NPN transistor to a low on-voltage for low power dissipation. In normal operation, VBOOST = VCC + VBAT when switch is on. Maximum allowable VBOOST is 55V.", 4 GND (power) "Ground Pin.", 5 OVP (in) "This is the input to the amplifier VA with a threshold of 2.465V. Typical input current is about 50nA into pin. For charging lithium-ion batteries, VA monitors the battery voltage and reduces charging current when battery (See Datasheet)", 6 NC, 7 SENSE (in) "Current Amplifier CA1 Input. Sensing can be at either terminal of the battery. Note that current sense resistor RS1 (0.08ohm) is between Sense and BAT pins.", 8 GND (power) "Ground Pin.", 9 GND (power) "Ground Pin.", 10 BAT (in) "Current Amplifier CA1 Input.", 11 NC, 12 VC "This is the control signal of the inner loop of the current mode PWM. Switching starts at 0.7V and higher VC corresponds to higher charging current in normal operation. A capacitor of at least 0.1uF to GND filters out noise (See Datasheet)", 13 PROG (in) "This pin is for programming the charging current and for system loop compensation. During normal operation, VPROG stays close to 2.465V. If it is shorted to GND the switching will stop. When a microprocessor-controlled DAC (See Datasheet)", 14 VCC1 (power) "Supply for the Chip. For good bypass, a low ESR capacitor of 10uF or higher is required, with the lead length kept to a minimum. VCC should be between 8V and 28V and at least 2V higher than VBAT for VBAT less than 10V, and 2.(See Datasheet)", 15 VCC2 (power) "Supply for the Chip. For good bypass, a low ESR capacitor of 10uF or higher is required, with the lead length kept to a minimum. VCC should be between 8V and 28V and at least 2V higher than VBAT for VBAT less than 10V, and 2.(See Datasheet)", 16 GND (power) "Ground Pin."

## LT1510IGN#PBF
designator U?
Constant-Voltage/ Constant-Current Battery Charger, 7 to 29 V Vin, 16-pin SOP (GN-16), -40 to 85 degC, Pb-Free; Manufacturer: Linear Technology; PartNumber: LT1510IGN#PBF; Battery Chemistry: Li-Ion, Li-Polymer, NiCd, NiMH, Lead Acid; Charge Termination: Use LTC1729; Float Voltage: Adj; Max Charge Current(A): 1.07; Number of Cells: 1 to 4 (Li), 1 to 12 (Ni); Type of Charger: Switching; Vin Max(V): 29; Vin Min(V): 7; DatasheetVersion: Rev. C; PackageVersion: Rev. B, 03/2012; PackageReference: GN-16; PackageDescription: 16-Pin Plastic SSOP, Body 4.9 x 3.9 mm, Pitch 0.635 mm; Supplier 1: Digi-Key; Supplier Part Number 1: LT1510IGN#PBF-ND; Supplier 2: Farnell; Supplier Part Number 2: 2252792; Supplier 3: Newark; Supplier Part Number 3: 57M4686; RoHS: TRUE; Mounting Technology: Surface Mount; ComponentLink1Description: Manufacturer URL; ComponentLink1URL: http://www.linear.com/; ComponentLink2Description: Datasheet; ComponentLink2URL: http://cds.linear.com/docs/en/datasheet/1510fc.pdf; ComponentLink3Description: Package Specification; ComponentLink3URL: http://cds.linear.com/docs/en/packaging/05081641_B_GN16.pdf
footprint LT-GN-16_N (SOP, 16-Leads, Body 5x4mm, Pitch 0.635mm, IPC Medium Density)
footprint LT-GN-16_L (SOP, 16-Leads, Body 5x4mm, Pitch 0.635mm, IPC High Density)
footprint LT-GN-16_M (SOP, 16-Leads, Body 5x4mm, Pitch 0.635mm, IPC Low Density)
pins: 1 GND (power) "Ground Pin.", 2 SW (power) "Switch Output. The Schottky catch diode must be placed with very short lead length in close proximity to SW pin and GND.", 3 BOOST "This pin is used to bootstrap and drive the switch power NPN transistor to a low on-voltage for low power dissipation. In normal operation, VBOOST = VCC + VBAT when switch is on. Maximum allowable VBOOST is 55V.", 4 GND (power) "Ground Pin.", 5 OVP (in) "This is the input to the amplifier VA with a threshold of 2.465V. Typical input current is about 50nA into pin. For charging lithium-ion batteries, VA monitors the battery voltage and reduces charging current when battery (See Datasheet)", 6 NC, 7 SENSE (in) "Current Amplifier CA1 Input. Sensing can be at either terminal of the battery. Note that current sense resistor RS1 (0.08ohm) is between Sense and BAT pins.", 8 GND (power) "Ground Pin.", 9 GND (power) "Ground Pin.", 10 BAT (in) "Current Amplifier CA1 Input.", 11 NC, 12 VC "This is the control signal of the inner loop of the current mode PWM. Switching starts at 0.7V and higher VC corresponds to higher charging current in normal operation. A capacitor of at least 0.1uF to GND filters out noise (See Datasheet)", 13 PROG (in) "This pin is for programming the charging current and for system loop compensation. During normal operation, VPROG stays close to 2.465V. If it is shorted to GND the switching will stop. When a microprocessor-controlled DAC (See Datasheet)", 14 VCC1 (power) "Supply for the Chip. For good bypass, a low ESR capacitor of 10uF or higher is required, with the lead length kept to a minimum. VCC should be between 8V and 28V and at least 2V higher than VBAT for VBAT less than 10V, and 2.(See Datasheet)", 15 VCC2 (power) "Supply for the Chip. For good bypass, a low ESR capacitor of 10uF or higher is required, with the lead length kept to a minimum. VCC should be between 8V and 28V and at least 2V higher than VBAT for VBAT less than 10V, and 2.(See Datasheet)", 16 GND (power) "Ground Pin."

## LT1510IGN#TR
designator U?
Constant-Voltage/ Constant-Current Battery Charger, 7 to 29 V Vin, 16-pin SOP (GN-16), -40 to 85 degC, Tape and Reel; Manufacturer: Linear Technology; PartNumber: LT1510IGN#TR; Battery Chemistry: Li-Ion, Li-Polymer, NiCd, NiMH, Lead Acid; Charge Termination: Use LTC1729; Float Voltage: Adj; Max Charge Current(A): 1.07; Number of Cells: 1 to 4 (Li), 1 to 12 (Ni); Type of Charger: Switching; Vin Max(V): 29; Vin Min(V): 7; DatasheetVersion: Rev. C; PackageVersion: Rev. B, 03/2012; PackageReference: GN-16; PackageDescription: 16-Pin Plastic SSOP, Body 4.9 x 3.9 mm, Pitch 0.635 mm; Supplier 1: Digi-Key; Supplier Part Number 1: LT1510IGN#TR-ND; Packing: Tape and Reel; RoHS: FALSE; Mounting Technology: Surface Mount; ComponentLink1Description: Manufacturer URL; ComponentLink1URL: http://www.linear.com/; ComponentLink2Description: Datasheet; ComponentLink2URL: http://cds.linear.com/docs/en/datasheet/1510fc.pdf; ComponentLink3Description: Package Specification; ComponentLink3URL: http://cds.linear.com/docs/en/packaging/05081641_B_GN16.pdf
footprint LT-GN-16_N (SOP, 16-Leads, Body 5x4mm, Pitch 0.635mm, IPC Medium Density)
footprint LT-GN-16_L (SOP, 16-Leads, Body 5x4mm, Pitch 0.635mm, IPC High Density)
footprint LT-GN-16_M (SOP, 16-Leads, Body 5x4mm, Pitch 0.635mm, IPC Low Density)
pins: 1 GND (power) "Ground Pin.", 2 SW (power) "Switch Output. The Schottky catch diode must be placed with very short lead length in close proximity to SW pin and GND.", 3 BOOST "This pin is used to bootstrap and drive the switch power NPN transistor to a low on-voltage for low power dissipation. In normal operation, VBOOST = VCC + VBAT when switch is on. Maximum allowable VBOOST is 55V.", 4 GND (power) "Ground Pin.", 5 OVP (in) "This is the input to the amplifier VA with a threshold of 2.465V. Typical input current is about 50nA into pin. For charging lithium-ion batteries, VA monitors the battery voltage and reduces charging current when battery (See Datasheet)", 6 NC, 7 SENSE (in) "Current Amplifier CA1 Input. Sensing can be at either terminal of the battery. Note that current sense resistor RS1 (0.08ohm) is between Sense and BAT pins.", 8 GND (power) "Ground Pin.", 9 GND (power) "Ground Pin.", 10 BAT (in) "Current Amplifier CA1 Input.", 11 NC, 12 VC "This is the control signal of the inner loop of the current mode PWM. Switching starts at 0.7V and higher VC corresponds to higher charging current in normal operation. A capacitor of at least 0.1uF to GND filters out noise (See Datasheet)", 13 PROG (in) "This pin is for programming the charging current and for system loop compensation. During normal operation, VPROG stays close to 2.465V. If it is shorted to GND the switching will stop. When a microprocessor-controlled DAC (See Datasheet)", 14 VCC1 (power) "Supply for the Chip. For good bypass, a low ESR capacitor of 10uF or higher is required, with the lead length kept to a minimum. VCC should be between 8V and 28V and at least 2V higher than VBAT for VBAT less than 10V, and 2.(See Datasheet)", 15 VCC2 (power) "Supply for the Chip. For good bypass, a low ESR capacitor of 10uF or higher is required, with the lead length kept to a minimum. VCC should be between 8V and 28V and at least 2V higher than VBAT for VBAT less than 10V, and 2.(See Datasheet)", 16 GND (power) "Ground Pin."